# Altium footprint library BIOSENSE_PCB.PcbLib: 36 footprints (part 2 of 3)
Each footprint in its own frame and in the unit in brackets; x right, y up, seen from the top. Pads: shape width x height; smd on the part's side, far side on the other; paste and mask are expansions set on the pad; w line width, h text height; cw(c..) or ccw(c..) is an arc to the next point about the centre after c.
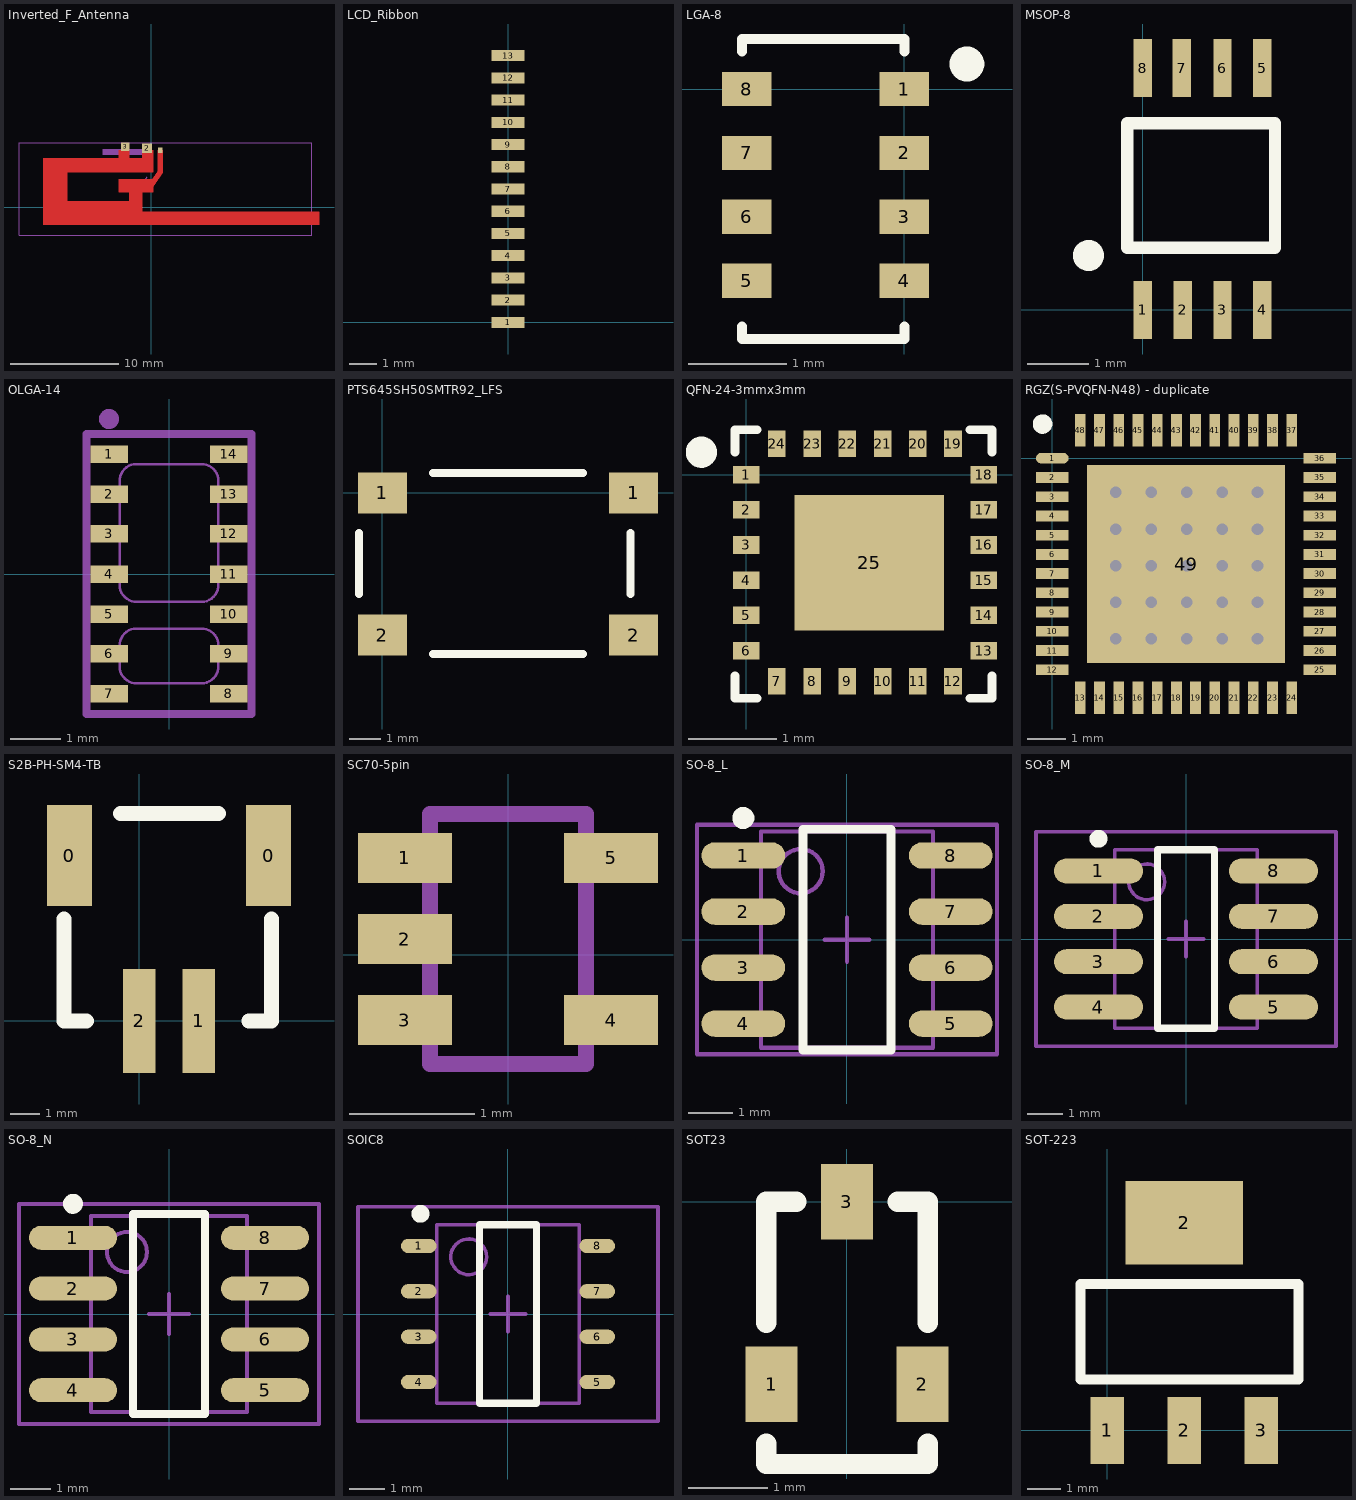
[diagram p1: the footprints below, top view; thin cyan lines are the x and y axes]

## Inverted_F_Antenna [mm]
pads (3):
  rect 0.4x0.5 smd: 1(0.851,5.283)
  rect 0.9x0.9 smd: 2(-0.381,5.461)
  rect 0.8x0.8 smd: 3(-2.413,5.588)
Top Layer:
  region: -9.995,4.521 -9.995,-1.651 15.583,-1.651 15.583,-0.432 -0.826,-0.432 -0.826,1.372 0.191,1.372 0.191,1.88 1.079,3.2 1.079,5.283 0.622,5.283 0.622,3.327 0.114,2.591 -3.01,2.591 -3.01,1.372 -2.019,1.372 -2.019,0.559 -7.81,0.559 -7.81,3.251 0.191,3.251 0.191,5.283 -0.826,5.283 -0.826,4.521 -2.019,4.521 -2.019,5.283 -3.01,5.283 -3.01,4.521
Mechanical 17:
  lines w0.025: -1.27,1.473 -0.381,2.794
Mechanical 20:
  text "1" at -0.691,5.105 h0.2
  text "3" at -4.069,5.105 h0.2
  text "2" at -1.859,5.105 h0.2
Mechanical 29:
  lines w0.025: -12.268,-2.642 -12.268,5.969 14.91,5.969 14.91,-2.642 -12.268,-2.642
Mechanical 31:
  pour cut-out: -0.381,5.359 -4.496,5.359 -4.496,4.851 -0.381,4.851

## LCD_Ribbon [mm]
pads (13):
  rect 1.2x0.4 smd: 1(0,0) 2(0,0.8) 3(0,1.6) 4(0,2.4) 5(0,3.2) 6(0,4) 7(0,4.8) 8(0,5.6) 9(0,6.4) 10(0,7.2) 11(0,8) 12(0,8.8) 13(0,9.6)

## LGA-8 [mm]
pads (8):
  rect 0.5x0.35 smd mask+0.05: 1(0,0) 2(0,-0.65) 3(0,-1.3) 4(0,-1.95) 5(-1.6,-1.95) 6(-1.6,-1.3) 7(-1.6,-0.65) 8(-1.6,0)
Top Overlay:
  circle w0.254: c0.635,0.254 r0.05
  lines w0.1: -1.651,-2.413 -1.651,-2.54 0,-2.54 0,-2.413 ; -1.651,0.381 -1.651,0.508 0,0.508 0,0.381

## MSOP-8 [mm]
pads (8):
  rect 0.3x0.95 smd: 1(0,0) 2(0.65,0) 3(1.3,0) 4(1.95,0) 5(1.95,3.95) 6(1.3,3.95) 7(0.635,3.95) 8(0,3.95)
Top Overlay:
  circle w0.254: c-0.889,0.889 r0.127
  lines w0.2: -0.254,1.016 2.159,1.016 2.159,3.048 -0.254,3.048 -0.254,1.016

## OLGA-14 [mm]
pads (14):
  rect 0.75x0.35 smd paste+0: 1(-1.2,2.4) 2(-1.2,1.6) 3(-1.2,0.8) 4(-1.2,0) 5(-1.2,-0.8) 6(-1.2,-1.6) 7(-1.2,-2.4) 8(1.2,-2.4) 9(1.2,-1.6) 10(1.2,-0.8) 11(1.2,0) 12(1.2,0.8) 13(1.2,1.6) 14(1.2,2.4)
Top Paste:
  region: 0.87,2.24 0.87,2.56 1.53,2.56 1.53,2.24
  region: -1.53,2.24 -1.53,2.56 -0.87,2.56 -0.87,2.24
  region: -1.53,1.44 -1.53,1.76 -0.87,1.76 -0.87,1.44
  region: -1.53,0.64 -1.53,0.96 -0.87,0.96 -0.87,0.64
  region: -1.53,-0.16 -1.53,0.16 -0.87,0.16 -0.87,-0.16
  region: -1.53,-0.96 -1.53,-0.64 -0.87,-0.64 -0.87,-0.96
  region: -1.53,-1.76 -1.53,-1.44 -0.87,-1.44 -0.87,-1.76
  region: -1.53,-2.56 -1.53,-2.24 -0.87,-2.24 -0.87,-2.56
  region: 0.87,-2.56 0.87,-2.24 1.53,-2.24 1.53,-2.56
  region: 0.87,-1.76 0.87,-1.44 1.53,-1.44 1.53,-1.76
  region: 0.87,-0.96 0.87,-0.64 1.53,-0.64 1.53,-0.96
  region: 0.87,-0.16 0.87,0.16 1.53,0.16 1.53,-0.16
  region: 0.87,0.64 0.87,0.96 1.53,0.96 1.53,0.64
  region: 0.87,1.44 0.87,1.76 1.53,1.76 1.53,1.44
Mechanical 3:
  lines w0.05: -0.985,-1.9 ccw(c-0.649,-1.845) -0.69,-2.183 0.7,-2.183 ccw(c0.647,-1.846) 0.985,-1.89 0.985,-1.38 ccw(c0.646,-1.433) 0.69,-1.093 -0.7,-1.093 ccw(c-0.645,-1.431) -0.985,-1.39 -0.985,-1.9 ; -0.985,-0.27 ccw(c-0.649,-0.215) -0.69,-0.553 0.7,-0.553 ccw(c0.647,-0.217) 0.985,-0.26 0.985,1.91 ccw(c0.646,1.857) 0.69,2.197 -0.7,2.197 ccw(c-0.644,1.859) -0.985,1.9 -0.985,-0.27
Mechanical 7:
  circle w0.2: c-1.2,3.1 r0.1
  lines w0.152: -1.65,-2.8 1.65,-2.8 1.65,2.8 -1.65,2.8 -1.65,-2.8

## PTS645SH50SMTR92_LFS [mm] "Tactile switch"
pads (4):
  rect 1.55x1.3 smd: 1(0,0) 1(7.95,0) 2(0,-4.5) 2(7.95,-4.5)
Top Overlay:
  lines w0.254: -0.737,-3.2 -0.737,-1.27 ; 1.6,-5.105 6.35,-5.105 ; 1.6,0.635 6.35,0.635 ; 7.849,-3.2 7.849,-1.27

## QFN-24-3mmx3mm [mm]
pads (25):
  rect 0.3x0.2 smd mask+0.05: 1(0,0) 2(0,-0.4) 3(0,-0.8) 4(0,-1.2) 5(0,-1.6) 6(0,-2) 13(2.7,-2) 14(2.7,-1.6) 15(2.7,-1.2) 16(2.7,-0.8) 17(2.7,-0.4) 18(2.7,0)
  rect 0.2x0.3 smd mask+0.05: 7(0.35,-2.35) 8(0.75,-2.35) 9(1.15,-2.35) 10(1.55,-2.35) 11(1.95,-2.35) 12(2.35,-2.35) 19(2.35,0.35) 20(1.95,0.35) 21(1.55,0.35) 22(1.15,0.35) 23(0.75,0.35) 24(0.35,0.35)
  rect 1.7x1.54 smd mask+0.05: 25(1.397,-1)
Top Overlay:
  circle w0.254: c-0.508,0.254 r0.05
  lines w0.1: -0.127,-2.286 -0.127,-2.54 0.127,-2.54 ; -0.127,0.254 -0.127,0.508 0.127,0.508 ; 2.54,-2.54 2.794,-2.54 2.794,-2.286 ; 2.54,0.508 2.794,0.508 2.794,0.254

## RGZ(S-PVQFN-N48) - duplicate [mm]
pads (49):
  oval 0.85x0.28 smd mask+0.07: 1(0,0)
  rect 0.85x0.28 smd mask+0.07: 2(0,-0.5) 3(0,-1) 4(0,-1.5) 5(0,-2) 6(0,-2.5) 7(0,-3) 8(0,-3.5) 9(0,-4) 10(0,-4.5) 11(0,-5) 12(0,-5.5) 25(6.95,-5.5) 26(6.95,-5) 27(6.95,-4.5) 28(6.95,-4) 29(6.95,-3.5) 30(6.95,-3) 31(6.95,-2.5) 32(6.95,-2) 33(6.95,-1.5) 34(6.95,-1) 35(6.95,-0.5) 36(6.95,0)
  rect 0.28x0.85 smd mask+0.07: 13(0.725,-6.225) 14(1.225,-6.225) 15(1.725,-6.225) 16(2.225,-6.225) 17(2.725,-6.225) 18(3.225,-6.225) 19(3.725,-6.225) 20(4.225,-6.225) 21(4.725,-6.225) 22(5.225,-6.225) 23(5.725,-6.225) 24(6.225,-6.225) 37(6.225,0.725) 38(5.725,0.725) 39(5.225,0.725) 40(4.725,0.725) 41(4.225,0.725) 42(3.725,0.725) 43(3.225,0.725) 44(2.725,0.725) 45(2.225,0.725) 46(1.725,0.725) 47(1.225,0.725) 48(0.725,0.725)
  rect 5.15x5.15 smd mask+0.07: 49(3.475,-2.75)
via 5.334,-0.889 diameter 0.6 hole 0.3
via 1.651,-4.699 diameter 0.6 hole 0.3
via 1.651,-0.889 diameter 0.6 hole 0.3
via 2.572,-4.699 diameter 0.6 hole 0.3
via 3.492,-4.699 diameter 0.6 hole 0.3
via 4.413,-4.699 diameter 0.6 hole 0.3
via 5.334,-4.699 diameter 0.6 hole 0.3
via 1.651,-3.746 diameter 0.6 hole 0.3
via 2.572,-3.746 diameter 0.6 hole 0.3
via 3.492,-3.746 diameter 0.6 hole 0.3
via 4.413,-3.746 diameter 0.6 hole 0.3
via 5.334,-3.746 diameter 0.6 hole 0.3
via 1.651,-2.794 diameter 0.6 hole 0.3
via 2.572,-2.794 diameter 0.6 hole 0.3
via 3.492,-2.794 diameter 0.6 hole 0.3
via 4.413,-2.794 diameter 0.6 hole 0.3
via 5.334,-2.794 diameter 0.6 hole 0.3
via 1.651,-1.841 diameter 0.6 hole 0.3
via 2.572,-1.841 diameter 0.6 hole 0.3
via 3.492,-1.841 diameter 0.6 hole 0.3
via 4.413,-1.841 diameter 0.6 hole 0.3
via 5.334,-1.841 diameter 0.6 hole 0.3
via 4.413,-0.889 diameter 0.6 hole 0.3
via 3.492,-0.889 diameter 0.6 hole 0.3
via 2.572,-0.889 diameter 0.6 hole 0.3
Top Overlay:
  circle w0.254: c-0.254,0.889 r0.127

## S2B-PH-SM4-TB [mm] "S2B-PH-SM$-TB"
pads (4):
  rect 1.5x3.4 smd: 0(-2.35,5.56) 0(4.35,5.56)
  rect 1.1x3.5 smd: 1(2,0) 2(0,0)
Top Overlay:
  lines w0.5: -2.54,3.429 -2.54,0 -1.778,0 ; -0.633,6.985 2.667,6.985 ; 3.683,0 4.445,0 4.445,3.429

## SC70-5pin [mm]
pads (5):
  rect 0.75x0.4 smd paste+0: 1(-0.825,0.777) 2(-0.825,0.127) 3(-0.825,-0.523) 4(0.825,-0.523) 5(0.825,0.777)
Top Paste:
  region: -1.168,-0.381 -0.483,-0.381 -0.483,-0.711 -1.168,-0.711
  region: -1.168,0.292 -0.483,0.292 -0.483,-0.038 -1.168,-0.038
  region: -1.168,0.965 -0.483,0.965 -0.483,0.635 -1.168,0.635
  region: 0.45,-0.323 1.2,-0.323 1.2,-0.723 0.45,-0.723
  region: 0.45,0.977 1.2,0.977 1.2,0.577 0.45,0.577
Mechanical 3:
  lines w0.127: -0.625,-0.873 -0.625,1.127 ; -0.625,-0.873 -0.625,1.127 ; -0.625,-0.873 0.625,-0.873 0.625,1.127 -0.625,1.127
Mechanical 7:
  lines w0.127: -0.625,-0.873 -0.625,1.127 0.625,1.127 0.625,-0.873 -0.625,-0.873

## SO-8_L [mm] "SOIC, 8-Leads, Body 4.9x3.9mm, Pitch 1.27mm, IPC High Density"
height 1.75
pads (8):
  oval 1.9x0.6 smd: 1(-2.35,1.905) 2(-2.35,0.635) 3(-2.35,-0.635) 4(-2.35,-1.905) 5(2.35,-1.905) 6(2.35,-0.635) 7(2.35,0.635) 8(2.35,1.905)
Top Overlay:
  circle w0.25: c-2.35,2.755 r0.125
  lines w0.2: -1,-2.5 1,-2.5 1,2.5 -1,2.5 -1,-2.5
Mechanical 13:
  circle w0.1: c-1.05,1.55 r0.5
  lines w0.1: -1.95,-2.45 1.95,-2.45 1.95,2.45 -1.95,2.45 -1.95,-2.45
Mechanical 15:
  lines w0.1: -0.5,0 0.5,0 ; 0,-0.5 0,0.5 ; -3.4,-2.6 3.4,-2.6 3.4,2.6 -3.4,2.6 -3.4,-2.6
3D body: height 1.75, standoff 0, extent -1.95,-2.45 1.95,2.45

## SO-8_M [mm] "SOIC, 8-Leads, Body 4.9x3.9mm, Pitch 1.27mm, IPC Low Density"
height 1.75
pads (8):
  oval 2.5x0.7 smd: 1(-2.45,1.905) 2(-2.45,0.635) 3(-2.45,-0.635) 4(-2.45,-1.905) 5(2.45,-1.905) 6(2.45,-0.635) 7(2.45,0.635) 8(2.45,1.905)
Top Overlay:
  circle w0.25: c-2.45,2.805 r0.125
  lines w0.2: -0.8,-2.5 0.8,-2.5 0.8,2.5 -0.8,2.5 -0.8,-2.5
Mechanical 13:
  circle w0.1: c-1.1,1.6 r0.5
  lines w0.1: -2,-2.5 2,-2.5 2,2.5 -2,2.5 -2,-2.5
Mechanical 15:
  lines w0.1: -0.5,0 0.5,0 ; 0,-0.5 0,0.5 ; -4.2,-3 4.2,-3 4.2,3 -4.2,3 -4.2,-3
3D body: height 1.75, standoff 0, extent -2,-2.5 2,2.5

## SO-8_N [mm] "SOIC, 8-Leads, Body 4.9x3.9mm, Pitch 1.27mm, IPC Medium Density"
height 1.75
pads (8):
  oval 2.2x0.6 smd: 1(-2.4,1.905) 2(-2.4,0.635) 3(-2.4,-0.635) 4(-2.4,-1.905) 5(2.4,-1.905) 6(2.4,-0.635) 7(2.4,0.635) 8(2.4,1.905)
Top Overlay:
  circle w0.25: c-2.4,2.755 r0.125
  lines w0.2: -0.9,-2.5 0.9,-2.5 0.9,2.5 -0.9,2.5 -0.9,-2.5
Mechanical 13:
  circle w0.1: c-1.05,1.55 r0.5
  lines w0.1: -1.95,-2.45 1.95,-2.45 1.95,2.45 -1.95,2.45 -1.95,-2.45
Mechanical 15:
  lines w0.1: -0.5,0 0.5,0 ; 0,-0.5 0,0.5 ; -3.75,-2.75 3.75,-2.75 3.75,2.75 -3.75,2.75 -3.75,-2.75
3D body: height 1.75, standoff 0, extent -1.95,-2.45 1.95,2.45

## SOIC8 [mm]
height 2.16
pads (8):
  oval 1x0.4 smd: 1(-2.5,1.905) 2(-2.5,0.635) 3(-2.5,-0.635) 4(-2.5,-1.905) 5(2.5,-1.905) 6(2.5,-0.635) 7(2.5,0.635) 8(2.5,1.905)
Top Overlay:
  circle w0.25: c-2.45,2.805 r0.125
  lines w0.2: -0.8,-2.5 -0.8,2.5 0.8,2.5 0.8,-2.5 -0.8,-2.5
Mechanical 13:
  circle w0.1: c-1.1,1.6 r0.5
  lines w0.1: -2,-2.5 -2,2.5 2,2.5 2,-2.5 -2,-2.5
Mechanical 15:
  lines w0.1: -0.5,0 0.5,0 ; 0,-0.5 0,0.5 ; -4.2,-3 -4.2,3 4.2,3 4.2,-3 -4.2,-3
3D body: height 1.75, standoff 0, extent -2,-2.5 2,2.5

## SOT23 [mm]
pads (3):
  rect 0.65x0.95 smd: 1(-0.95,-2.3) 2(0.95,-2.3) 3(0,0)
Top Overlay:
  lines w0.254: -1.016,-3.048 -1.016,-3.302 1.016,-3.302 1.016,-3.048 ; -1.016,-1.524 -1.016,0 -0.635,0 ; 0.635,0 1.016,0 1.016,-1.524

## SOT-223 [mm]
height 1.8
pads (4):
  rect 1x2 smd: 1(0,0) 2(2.3,0) 3(4.6,0)
  rect 3.5x2.5 smd: 2(2.3,6.2)
Top Overlay:
  lines w0.3: -0.8,1.524 5.7,1.524 5.7,4.369 -0.8,4.369 -0.8,1.524